# EAGLE library part CY8C21534 (library cypresspsoc_0.30)
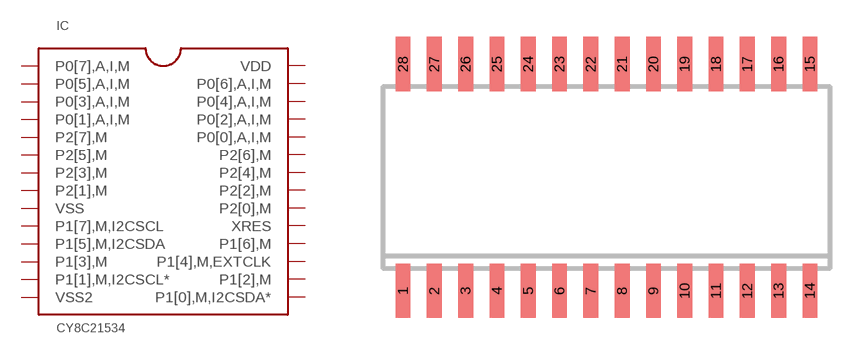
[diagram p2: symbol with the pads of SO28W; footprint SO28W]

Designator prefix IC

## CY8C21534_SO28  [SO28W]
1  P0[7],A,I,M
2  P0[5],A,I,M
3  P0[3],A,I,M
4  P0[1],A,I,M
5  P2[7],M
6  P2[5],M
7  P2[3],M
8  P2[1],M
9  VSS  pwr
10  P1[7],M,I2CSCL
11  P1[5],M,I2CSDA
12  P1[3],M
13  P1[1],M,I2CSCL*
14  VSS2  pwr
15  P1[0],M,I2CSDA*
16  P1[2],M
17  P1[4],M,EXTCLK
18  P1[6],M
19  XRES
20  P2[0],M
21  P2[2],M
22  P2[4],M
23  P2[6],M
24  P0[0],A,I,M
25  P0[2],A,I,M
26  P0[4],A,I,M
27  P0[6],A,I,M
28  VDD  pwr

## Footprint SO28W (pad centres in mm)
SMALL OUTLINE INTEGRATED CIRCUIT wide body 7.5 mm/JEDEC MO-119AB
smd 0.6 x 2.2: 1 -8.255,-4.6; 2 -6.985,-4.6; 3 -5.715,-4.6; 4 -4.445,-4.6; 5 -3.175,-4.6; 6 -1.905,-4.6; 7 -0.635,-4.6; 8 0.635,-4.6; 9 1.905,-4.6; 10 3.175,-4.6; 11 4.445,-4.6; 12 5.715,-4.6; 13 6.985,-4.6; 14 8.255,-4.6; 15 8.255,4.6; 16 6.985,4.6; 17 5.715,4.6; 18 4.445,4.6; 19 3.175,4.6; 20 1.905,4.6; 21 0.635,4.6; 22 -0.635,4.6; 23 -1.905,4.6; 24 -3.175,4.6; 25 -4.445,4.6; 26 -5.715,4.6; 27 -6.985,4.6; 28 -8.255,4.6